# EAGLE library part CPC9909N (library IC_Power-Management)
High Brightness LED Driver IC Datasheet <https://www.ixysic.com/home/pdfs.nsf/www/CPC9909.pdf/$file/CPC9909.pdf>
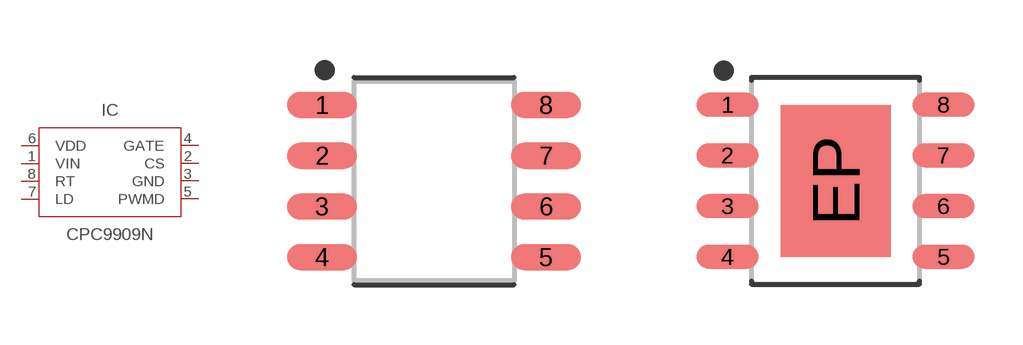
[diagram p25: symbol with the pads of SOIC127P610X175-8N; footprints SOIC127P610X175-8N, SOIC127P612X167-9T275X380N]

Designator prefix IC

## CPC9909N (CATEGORY: IC_Power-Management; DESCRIPTION: LED Lighting Drivers 8V-550V 2.5W; MANUFACTURER: IXYS Integrated Circuits Division; MPN: CPC9909N; OPERATING_TEMPERATURE: -40°C ~ 85°C; PART_STATUS: ACTIVE; ROHS_COMPLIANT: COMPLIANT; SERIES: -; SUB_CATEGORY: Driver; TYPE: LED Driver; VALUE: CPC9909)  [SOIC127P610X175-8N]
1  VIN  pwr
2  CS  in
3  GND  pwr
4  GATE  out
5  PWMD  in
6  VDD  pwr
7  LD
8  RT

## CPC9909NE (CATEGORY: IC_Power-Management; DESCRIPTION: LED Lighting Drivers 8V-550V 2.5W; MANUFACTURER: IXYS Integrated Circuits Division; MPN: CPC9909NE; OPERATING_TEMPERATURE: -40°C ~ 85°C; PART_STATUS: ACTIVE; ROHS_COMPLIANT: COMPLIANT; SERIES: -; SUB_CATEGORY: Driver; TYPE: LED Driver; VALUE: CPC9909)  [SOIC127P612X167-9T275X380N]
1  VIN  pwr
2  CS  in
3  GND  pwr
4  GATE  out
5  PWMD  in
6  VDD  pwr
7  LD
8  RT
EP  GND  pwr

## Footprint SOIC127P610X175-8N (pad centres in mm)
8-SOIC, 1.27 mm pitch, 6.10 mm span, 4.95 X 3.95 X 1.75 mm body 8-pin SOIC package with 1.27 mm pitch, 6.10 mm span with body size 4.95 X 3.95 X 1.75 mm
smd 1.75 x 0.65: 1 -2.8,1.905; 2 -2.8,0.635; 3 -2.8,-0.635; 4 -2.8,-1.905; 5 2.8,-1.905; 6 2.8,-0.635; 7 2.8,0.635; 8 2.8,1.905

## Footprint SOIC127P612X167-9T275X380N (pad centres in mm)
8-SOIC, 1.27 mm pitch, 6.12 mm span, 5.06 X 4.06 X 1.68 mm body, 3.80 X 2.75 mm thermal pad 8-pin SOIC package with 1.27 mm pitch, 6.12 mm span with body size 5.06 X 4.06 X 1.68 mm and thermal pad size 3.80 X 2.75 mm
smd 1.55 x 0.6: 1 -2.7,1.905; 2 -2.7,0.635; 3 -2.7,-0.635; 4 -2.7,-1.905; 5 2.7,-1.905; 6 2.7,-0.635; 7 2.7,0.635; 8 2.7,1.905
smd 2.75 x 3.8: EP 0,0